# Altium schematic symbol library TLV2444CD.SchLib: 2 symbols
Pins are listed as number, name and electrical type; pins without a type are passive.

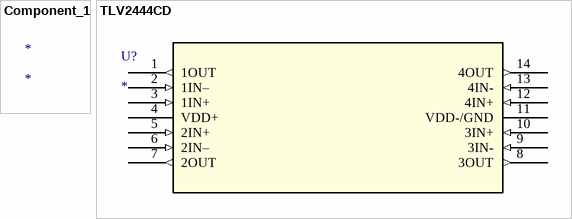
[diagram p0: symbols Component_1 to TLV2444CD]

## Component_1
designator *

## TLV2444CD
designator U?
No Description Available; Mfr_Name: Texas Instruments; RefDes: RefDes; Type: Type
footprint D14
pins: 1 1OUT (out), 2 1IN– (in), 3 1IN+ (in), 4 VDD+ (power), 5 2IN+ (in), 6 2IN– (in), 7 2OUT (out), 8 3OUT (out), 9 3IN- (in), 10 3IN+ (in), 11 VDD-/GND (power), 12 4IN+ (in), 13 4IN- (in), 14 4OUT (out)